# Altium schematic symbol library HiLinkPowerSupply.SchLib: 10 symbols
Pins are listed as number, name and electrical type; pins without a type are passive.

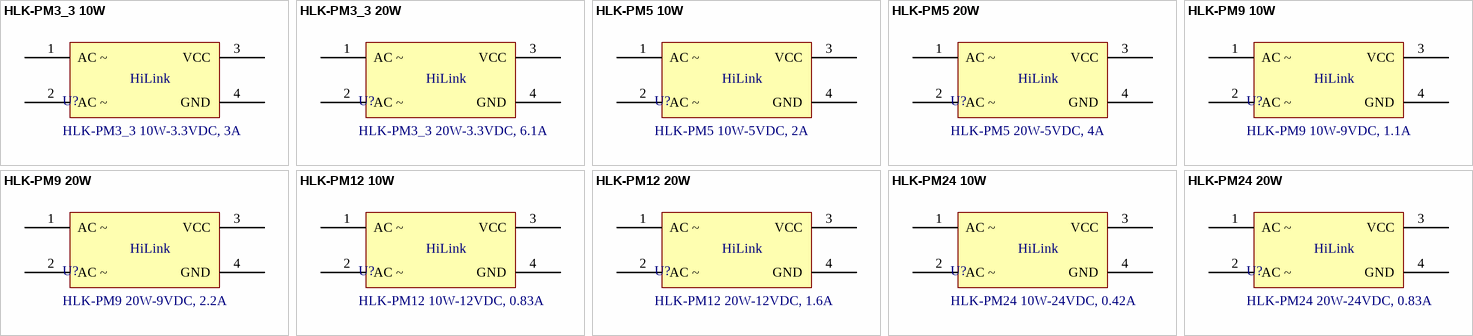
[diagram p0: symbols HLK-PM3_3 10W to HLK-PM24 20W]

## HLK-PM3_3 10W
designator U?, comment HLK-PM3_3 10W-3.3VDC, 3A
HLK-PM3_3 AC-DC 220-3.3V 10W; Manufacturer: Hi-Link Electronic; Voltage Output: 3.3VDC; Voltage Input: 220VAC; Current Output: 3A; Power Output: 10W; ComponentLink1URL: https://www.hlktech.com/en/Product/Details/29; Supplier 1 URL: N/A; Supplier 2 URL: N/A; Supplier 3 SN: HLK-PM3_3 10W; Supplier 3 URL: N/A; Value: HLK-PM3_3 10W-3.3VDC, 3A; Manufacturer Part Number: HLK-PM3_3 AC-DC 220-3.3V 10W; Mount: THT; Operating Temperature Max: + 85 C; Operating Temperature Min: - 40 C; Packaging: Tape and Reel; Supplier 1: Mouser; Supplier 1 Part Number: N/A; Supplier 2: Digi-Key; Supplier 2 Part Number: N/A; Supplier 3: thegioiic; Supplier 3 Part Number: N/A; ComponentLink1Description: Datasheet
footprint HLK-10M
pins: 1 AC ~, 2 AC ~, 3 VCC, 4 GND
text: HiLink

## HLK-PM3_3 20W
designator U?, comment HLK-PM3_3 20W-3.3VDC, 6.1A
HLK-PM3_3 AC-DC 220-3.3V 20W; Manufacturer: Hi-Link Electronic; Voltage Input: 220VAC; Voltage Output: 3.3VDC; Current Output: 6.1A; Power Output: 20W; ComponentLink1URL: https://www.hlktech.com/en/Goods-49.html; Supplier 1 URL: N/A; Supplier 2 URL: N/A; Supplier 3 SN: HLK-PM3_3 20W; Supplier 3 URL: N/A; Value: HLK-PM3_3 20W-3.3VDC, 6.1A; Manufacturer Part Number: HLK-PM3_3 AC-DC 220-3.3V 20W; Mount: THT; Operating Temperature Max: + 85 C; Operating Temperature Min: - 40 C; Packaging: Tape and Reel; Supplier 1: Mouser; Supplier 1 Part Number: N/A; Supplier 2: Digi-Key; Supplier 2 Part Number: N/A; Supplier 3: thegioiic; Supplier 3 Part Number: N/A; ComponentLink1Description: Datasheet
footprint HLK-20M
pins: 1 AC ~, 2 AC ~, 3 VCC, 4 GND
text: HiLink

## HLK-PM5 10W
designator U?, comment HLK-PM5 10W-5VDC, 2A
HLK-PM5 AC-DC 220-5V 10W; Manufacturer: Hi-Link Electronic; Voltage Input: 220VAC; Voltage Output: 5VDC; Power Output: 10W; Current Output: 2A; ComponentLink1URL: https://www.hlktech.com/en/Product/Details/29; Supplier 1 URL: N/A; Supplier 2 URL: N/A; Supplier 3 SN: HLK-PM5 10W; Supplier 3 URL: N/A; Value: HLK-PM5 10W-5VDC, 2A; Manufacturer Part Number: HLK-PM5 AC-DC 220-5V 10W; Mount: THT; Operating Temperature Max: + 85 C; Operating Temperature Min: - 40 C; Packaging: Tape and Reel; Supplier 1: Mouser; Supplier 1 Part Number: N/A; Supplier 2: Digi-Key; Supplier 2 Part Number: N/A; Supplier 3: thegioiic; Supplier 3 Part Number: N/A; ComponentLink1Description: Datasheet
footprint HLK-10M
pins: 1 AC ~, 2 AC ~, 3 VCC, 4 GND
text: HiLink

## HLK-PM5 20W
designator U?, comment HLK-PM5 20W-5VDC, 4A
HLK-PM5 AC-DC 220-5V 20W; Manufacturer: Hi-Link Electronic; Voltage Input: 220VAC; Voltage Output: 5VDC; Power Output: 20W; Current Output: 4A; ComponentLink1URL: https://www.hlktech.com/en/Goods-49.html; Supplier 1 URL: N/A; Supplier 2 URL: N/A; Supplier 3 SN: HLK-PM5 20W; Supplier 3 URL: N/A; Value: HLK-PM5 20W-5VDC, 4A; Manufacturer Part Number: HLK-PM5 AC-DC 220-5V 20W; Mount: THT; Operating Temperature Max: + 85 C; Operating Temperature Min: - 40 C; Packaging: Tape and Reel; Supplier 1: Mouser; Supplier 1 Part Number: N/A; Supplier 2: Digi-Key; Supplier 2 Part Number: N/A; Supplier 3: thegioiic; Supplier 3 Part Number: N/A; ComponentLink1Description: Datasheet
footprint HLK-20M
pins: 1 AC ~, 2 AC ~, 3 VCC, 4 GND
text: HiLink

## HLK-PM9 10W
designator U?, comment HLK-PM9 10W-9VDC, 1.1A
HLK-PM9 AC-DC 220-9V 10W; Manufacturer: Hi-Link Electronic; Voltage Input: 220VAC; Voltage Output: 9VDC; Power Output: 10W; Current Output: 1.1A; ComponentLink1URL: https://www.hlktech.com/en/Product/Details/29; Supplier 1 URL: N/A; Supplier 2 URL: N/A; Supplier 3 SN: HLK-PM9 10W; Supplier 3 URL: N/A; Value: HLK-PM9 10W-9VDC, 1.1A; Manufacturer Part Number: HLK-PM9 AC-DC 220-9V 10W; Mount: THT; Operating Temperature Max: + 85 C; Operating Temperature Min: - 40 C; Packaging: Tape and Reel; Supplier 1: Mouser; Supplier 1 Part Number: N/A; Supplier 2: Digi-Key; Supplier 2 Part Number: N/A; Supplier 3: thegioiic; Supplier 3 Part Number: N/A; ComponentLink1Description: Datasheet
footprint HLK-10M
pins: 1 AC ~, 2 AC ~, 3 VCC, 4 GND
text: HiLink

## HLK-PM9 20W
designator U?, comment HLK-PM9 20W-9VDC, 2.2A
HLK-PM9 AC-DC 220-9V 20W; Manufacturer: Hi-Link Electronic; Voltage Input: 220VAC; Voltage Output: 9VDC; Power Output: 20W; Current Output: 2.2A; ComponentLink1URL: https://www.hlktech.com/en/Goods-49.html; Supplier 1 URL: N/A; Supplier 2 URL: N/A; Supplier 3 SN: HLK-PM9 20W; Supplier 3 URL: N/A; Value: HLK-PM9 20W-9VDC, 2.2A; Manufacturer Part Number: HLK-PM9 AC-DC 220-9V 20W; Mount: THT; Operating Temperature Max: + 85 C; Operating Temperature Min: - 40 C; Packaging: Tape and Reel; Supplier 1: Mouser; Supplier 1 Part Number: N/A; Supplier 2: Digi-Key; Supplier 2 Part Number: N/A; Supplier 3: thegioiic; Supplier 3 Part Number: N/A; ComponentLink1Description: Datasheet
footprint HLK-20M
pins: 1 AC ~, 2 AC ~, 3 VCC, 4 GND
text: HiLink

## HLK-PM12 10W
designator U?, comment HLK-PM12 10W-12VDC, 0.83A
HLK-PM12 AC-DC 220-12V 10W; Manufacturer: Hi-Link Electronic; Voltage Input: 220VAC; Voltage Output: 12VDC; Power Output: 10W; Current Output: 0.83A; ComponentLink1URL: https://www.hlktech.com/en/Product/Details/29; Supplier 1 URL: N/A; Supplier 2 URL: N/A; Supplier 3 SN: HLK-PM12 10W; Supplier 3 URL: N/A; Value: HLK-PM12 10W-12VDC, 0.83A; Manufacturer Part Number: HLK-PM12 AC-DC 220-12V 10W; Mount: THT; Operating Temperature Max: + 85 C; Operating Temperature Min: - 40 C; Packaging: Tape and Reel; Supplier 1: Mouser; Supplier 1 Part Number: N/A; Supplier 2: Digi-Key; Supplier 2 Part Number: N/A; Supplier 3: thegioiic; Supplier 3 Part Number: N/A; ComponentLink1Description: Datasheet
footprint HLK-10M
pins: 1 AC ~, 2 AC ~, 3 VCC, 4 GND
text: HiLink

## HLK-PM12 20W
designator U?, comment HLK-PM12 20W-12VDC, 1.6A
HLK-PM12 AC-DC 220-12V 20W; Manufacturer: Hi-Link Electronic; Voltage Input: 220VAC; Voltage Output: 12VDC; Power Output: 20W; Current Output: 1.6A; ComponentLink1URL: https://www.hlktech.com/en/Goods-49.html; Supplier 1 URL: N/A; Supplier 2 URL: N/A; Supplier 3 SN: HLK-PM12 20W; Supplier 3 URL: N/A; Value: HLK-PM12 20W-12VDC, 1.6A; Manufacturer Part Number: HLK-PM12 AC-DC 220-12V 20W; Mount: THT; Operating Temperature Max: + 85 C; Operating Temperature Min: - 40 C; Packaging: Tape and Reel; Supplier 1: Mouser; Supplier 1 Part Number: N/A; Supplier 2: Digi-Key; Supplier 2 Part Number: N/A; Supplier 3: thegioiic; Supplier 3 Part Number: N/A; ComponentLink1Description: Datasheet
footprint HLK-20M
pins: 1 AC ~, 2 AC ~, 3 VCC, 4 GND
text: HiLink

## HLK-PM24 10W
designator U?, comment HLK-PM24 10W-24VDC, 0.42A
HLK-PM24 AC-DC 220-24V 10W; Manufacturer: Hi-Link Electronic; Voltage Input: 220VAC; Voltage Output: 24VDC; Power Output: 10W; Current Output: 0.42A; ComponentLink1URL: https://www.hlktech.com/en/Product/Details/29; Supplier 1 URL: N/A; Supplier 2 URL: N/A; Supplier 3 SN: HLK-PM24 10W; Supplier 3 URL: N/A; Value: HLK-PM24 10W-24VDC, 0.42A; Manufacturer Part Number: HLK-PM24 AC-DC 220-24V 10W; Mount: THT; Operating Temperature Max: + 85 C; Operating Temperature Min: - 40 C; Packaging: Tape and Reel; Supplier 1: Mouser; Supplier 1 Part Number: N/A; Supplier 2: Digi-Key; Supplier 2 Part Number: N/A; Supplier 3: thegioiic; Supplier 3 Part Number: N/A; ComponentLink1Description: Datasheet
footprint HLK-10M
pins: 1 AC ~, 2 AC ~, 3 VCC, 4 GND
text: HiLink

## HLK-PM24 20W
designator U?, comment HLK-PM24 20W-24VDC, 0.83A
HLK-PM24 AC-DC 220-24V 10W; Manufacturer: Hi-Link Electronic; Power Output: 20W; Voltage Input: 220VAC; Voltage Output: 24VDC; Current Output: 0.83A; ComponentLink1URL: https://www.hlktech.com/en/Goods-49.html; Supplier 1 URL: N/A; Supplier 2 URL: N/A; Supplier 3 SN: HLK-PM24 20W; Supplier 3 URL: N/A; Value: HLK-PM24 20W-24VDC, 0.83A; Manufacturer Part Number: HLK-PM24 AC-DC 220-24V 10W; Mount: THT; Operating Temperature Max: + 85 C; Operating Temperature Min: - 40 C; Packaging: Tape and Reel; Supplier 1: Mouser; Supplier 1 Part Number: N/A; Supplier 2: Digi-Key; Supplier 2 Part Number: N/A; Supplier 3: thegioiic; Supplier 3 Part Number: N/A; ComponentLink1Description: Datasheet
footprint HLK-20M
pins: 1 AC ~, 2 AC ~, 3 VCC, 4 GND
text: HiLink